# EAGLE library part 2X3 (library connectors)
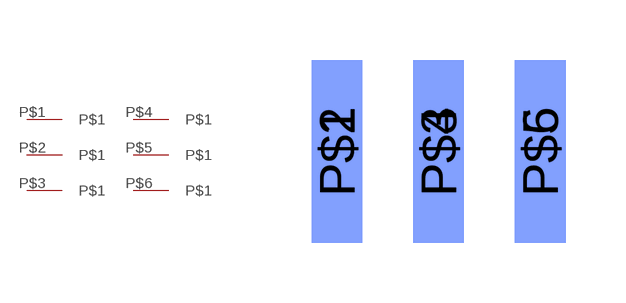
[diagram p1: symbol with the pads of 2X3; footprint 2X3]

Designator prefix -; gates G$1=PAD G$2=PAD G$3=PAD G$4=PAD G$5=PAD G$6=PAD

## 2X3  [2X3]
P$1  G$1:P$1
P$2  G$2:P$1
P$3  G$3:P$1
P$4  G$4:P$1
P$5  G$5:P$1
P$6  G$6:P$1

## Footprint 2X3 (pad centres in mm)
smd 1.27 x 4.572: P$1 -2.54,0; P$3 0,0; P$5 2.54,0
smd 1.27 x 4.572 bottom: P$2 -2.54,0; P$4 0,0; P$6 2.54,0